# EAGLE library part STEREOSW3GND (library Audio Jacks 0.25 inch)
1/4" stereo jack, switched, with chassis ground connection
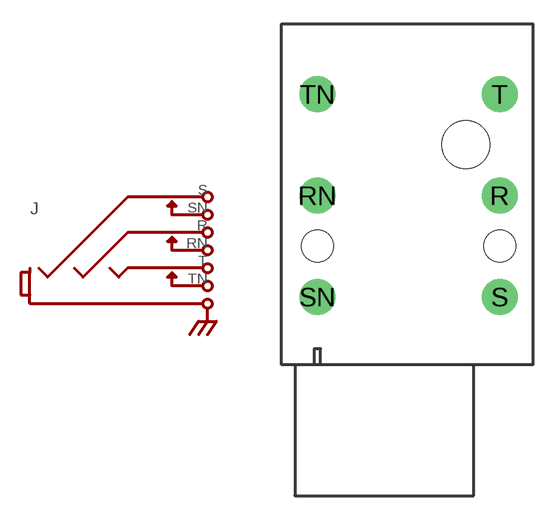
[diagram p0: symbol with the pads of NEUTRIK-NRJ6HF-1; footprint NEUTRIK-NRJ6HF-1]

Designator prefix J

## STEREOSW3GND  [NEUTRIK-NRJ6HF-1]
R  R  pas
RN  RN  pas
S  S  pas
SN  SN  pas
T  T  pas
TN  TN  pas

## Footprint NEUTRIK-NRJ6HF-1 (pad centres in mm)
1/4" stereo jack, switched, fully threaded nose with chassis ground connection
drill 1.5 round: R 7.23,10.6; RN -4.2,10.6; S 7.23,4.25; SN -4.2,4.25; T 7.23,16.95; TN -4.2,16.95
hole 3 at 5.1,13.8
hole 2 at 7.23,7.45
hole 2 at -4.2,7.45